# EAGLE library part MX25L25635E (library launchpad_bp)
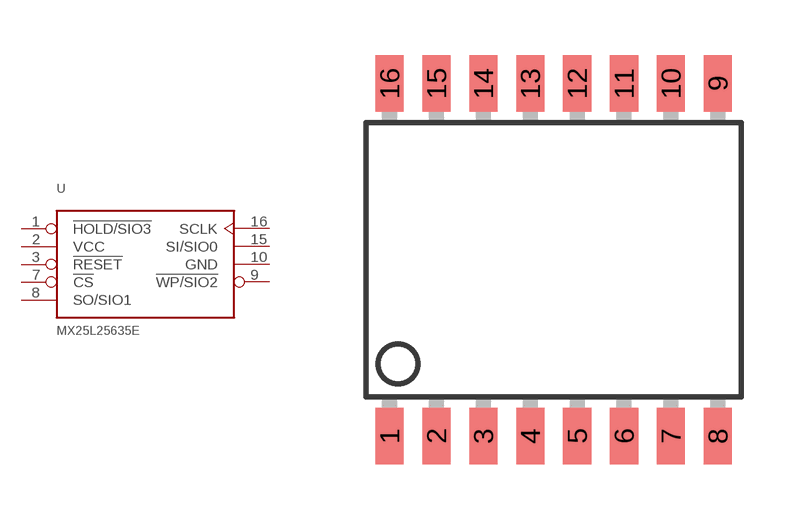
[diagram p6: symbol with the pads of SO-16LD; footprint SO-16LD]

Designator prefix -

## MX25L25635E  [SO-16LD]
1  !HOLD/SIO3
2  VCC  pwr
3  !RESET  in
7  !CS  in
8  SO/SIO1
9  !WP/SIO2
10  GND  pwr
15  SI/SIO0
16  SCLK  in

## Footprint SO-16LD (pad centres in mm)
Small Outline Package
smd 0.762 x 1.524: 1 -4.445,-4.775; 2 -3.175,-4.775; 3 -1.905,-4.775; 4 -0.635,-4.775; 5 0.635,-4.775; 6 1.905,-4.775; 7 3.175,-4.775; 8 4.445,-4.775; 9 4.445,4.775; 10 3.175,4.775; 11 1.905,4.775; 12 0.635,4.775; 13 -0.635,4.775; 14 -1.905,4.775; 15 -3.175,4.775; 16 -4.445,4.775